# EAGLE library part ADS7952 (library TI)
DRAFT
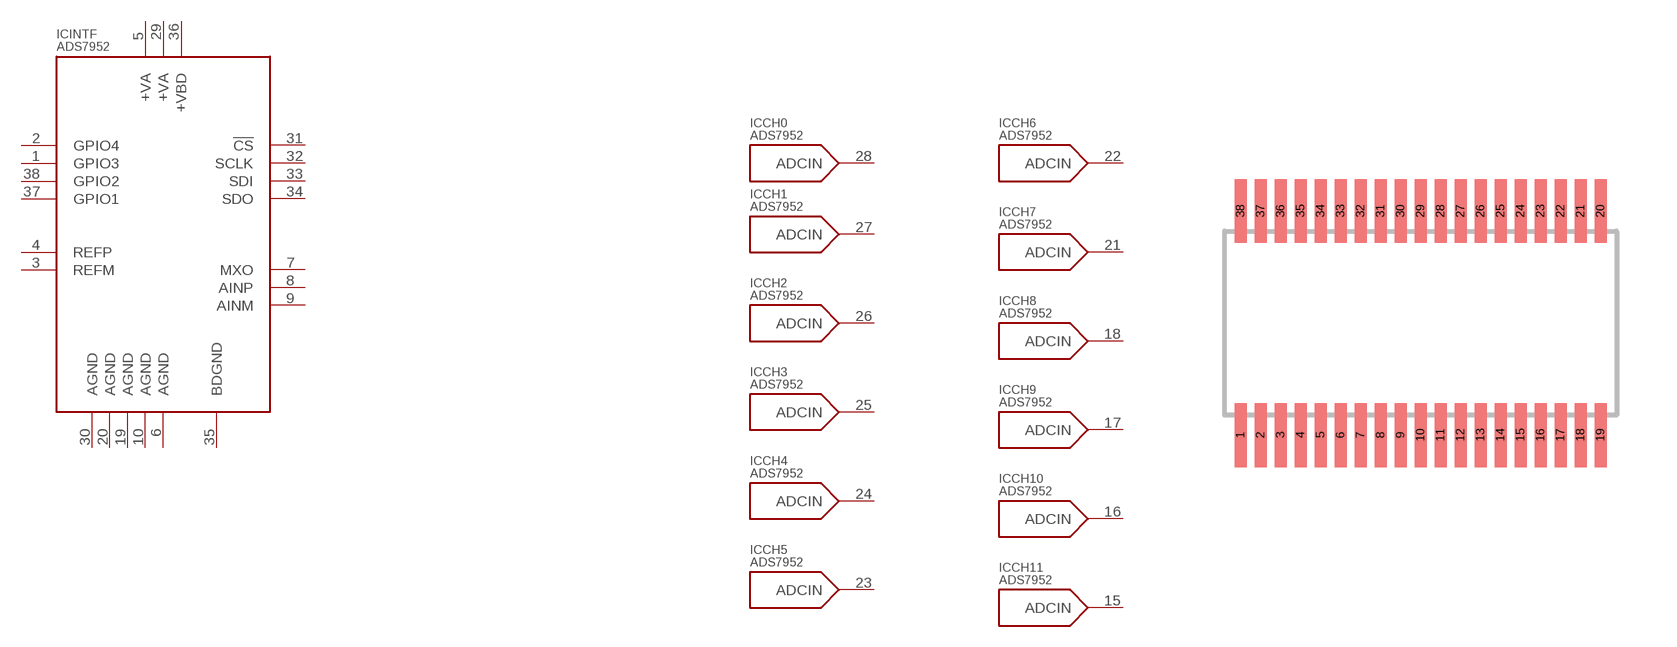
[diagram p13: symbol with the pads of DBT_(R-PDSO-G38); footprint DBT_(R-PDSO-G38)]

Designator prefix IC; gates INTF=ADS7952 CH0=ADC_INPUT CH1=ADC_INPUT CH2=ADC_INPUT CH3=ADC_INPUT CH4=ADC_INPUT CH5=ADC_INPUT CH6=ADC_INPUT CH7=ADC_INPUT CH8=ADC_INPUT CH9=ADC_INPUT CH10=ADC_INPUT CH11=ADC_INPUT

## ADS7952SDBTR (PARTNO: ADS7952SDBTR)  [DBT_(R-PDSO-G38)]
1  INTF:GPIO3
2  INTF:GPIO4
3  INTF:REFM  in
4  INTF:REFP  pwr
5  INTF:+VA  pwr
6  INTF:AGND  pwr
7  INTF:MXO  out
8  INTF:AINP  in
9  INTF:AINM  in
10  INTF:AGND  pwr
15  CH11:ADCIN  in
16  CH10:ADCIN  in
17  CH9:ADCIN  in
18  CH8:ADCIN  in
19  INTF:AGND  pwr
20  INTF:AGND  pwr
21  CH7:ADCIN  in
22  CH6:ADCIN  in
23  CH5:ADCIN  in
24  CH4:ADCIN  in
25  CH3:ADCIN  in
26  CH2:ADCIN  in
27  CH1:ADCIN  in
28  CH0:ADCIN  in
29  INTF:+VA  pwr
30  INTF:AGND  pwr
31  INTF:!CS  in
32  INTF:SCLK  in
33  INTF:SDI  in
34  INTF:SDO  out
35  INTF:BDGND  pwr
36  INTF:+VBD  pwr
37  INTF:GPIO1
38  INTF:GPIO2

## Footprint DBT_(R-PDSO-G38) (pad centres in mm)
DRAFT DRAFT DRAFT http://www.ti.com/lit/ds/symlink/ads7953-q1.pdf
smd 0.3 x 1.6: 1 -4.5,-2.8; 2 -4,-2.8; 3 -3.5,-2.8; 4 -3,-2.8; 5 -2.5,-2.8; 6 -2,-2.8; 7 -1.5,-2.8; 8 -1,-2.8; 9 -0.5,-2.8; 10 0,-2.8; 11 0.5,-2.8; 12 1,-2.8; 13 1.5,-2.8; 14 2,-2.8; 15 2.5,-2.8; 16 3,-2.8; 17 3.5,-2.8; 18 4,-2.8; 19 4.5,-2.8; 20 4.5,2.8; 21 4,2.8; 22 3.5,2.8; 23 3,2.8; 24 2.5,2.8; 25 2,2.8; 26 1.5,2.8; 27 1,2.8; 28 0.5,2.8; 29 0,2.8; 30 -0.5,2.8; 31 -1,2.8; 32 -1.5,2.8; 33 -2,2.8; 34 -2.5,2.8; 35 -3,2.8; 36 -3.5,2.8; 37 -4,2.8; 38 -4.5,2.8